# EAGLE library part RESISTOR-ARRAY (library CharlieCreations)
Array Chip Resistor Source: RS Component / Phycomp
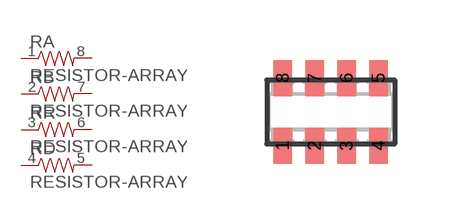
[diagram p8: symbol with the pads of 0603-ARV; footprint 0603-ARV]

Designator prefix R; gates A=RESISTOR-1 B=RESISTOR-1 R=RESISTOR-1 D=RESISTOR-1

## RESISTOR-ARRAY0603-ARV  [0603-ARV]
1  A:1  pas
2  B:1  pas
3  R:1  pas
4  D:1  pas
5  D:2  pas
6  R:2  pas
7  B:2  pas
8  A:2  pas

## Footprint 0603-ARV (pad centres in mm)
Chip Resistor Array size 4 × 0603 convex termination - Phycomp Components Source: RS Components
smd 0.457 x 0.902: 1 -1.2,-0.845; 2 -0.4,-0.845; 3 0.4,-0.845; 4 1.2,-0.845; 5 1.2,0.845; 6 0.4,0.845; 7 -0.4,0.845; 8 -1.2,0.845